# Altium schematic symbol library Mirror_Symbols.SchLib: 25 symbols
Pins are listed as number, name and electrical type; pins without a type are passive.

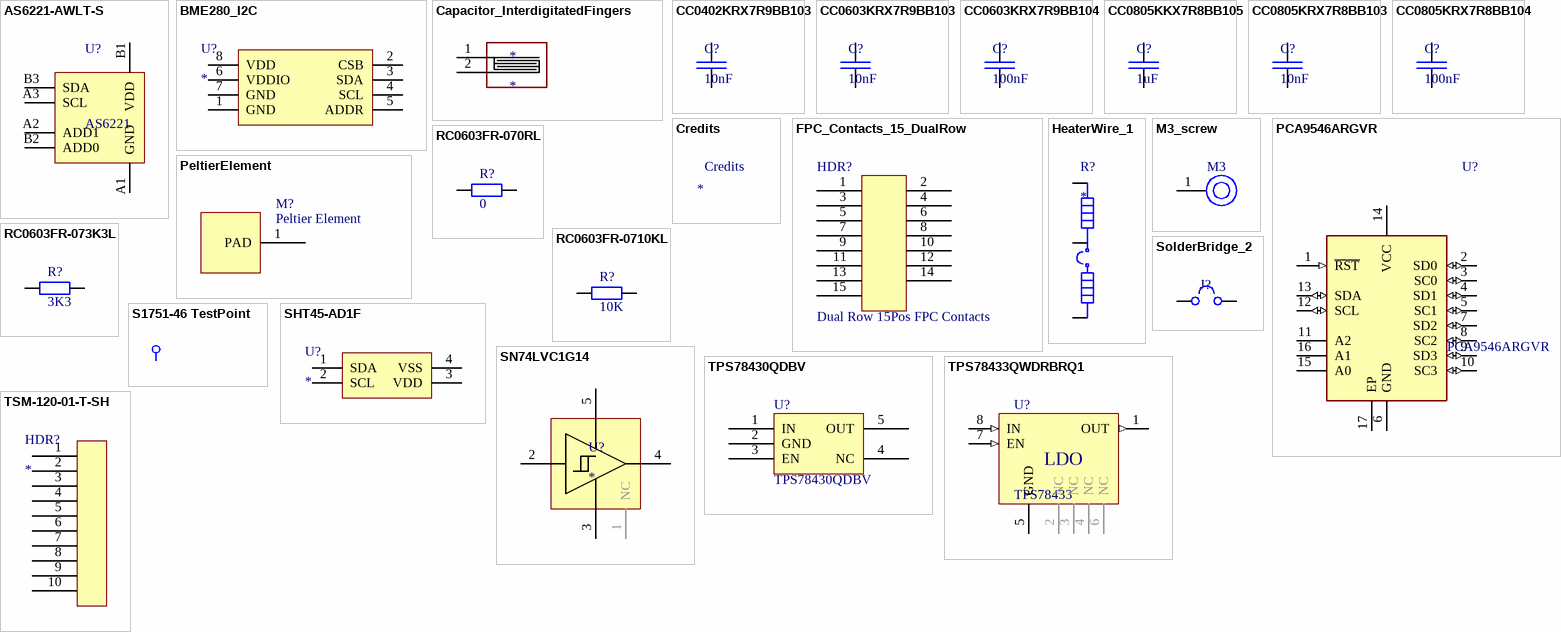
[diagram p0: symbols AS6221-AWLT-S to TSM-120-01-T-SH]

## AS6221-AWLT-S
designator U?, comment AS6221
AS6221 Temperature Sensor Digital -40°C ~ 125°C 16b 6-WLCSP (1.5x1.03); Supplier 1: Mouser; Supplier Part Number 1: 985-AS6221-AWLT-S; Supplier 2: Digikey; Supplier Part Number 2: 4991-AS6221-AWLT-SCT-ND; Supplier 3: Arrow Electronics; Supplier Part Number 3: AS6221-AWLT-S; Supplier 4: Future Electronics; Supplier Part Number 4: 1136541; Supplier 5: Digikey; Supplier Part Number 5: 4991-AS6221-AWLT-SDKR-ND; Supplier 6: Digikey; Supplier Part Number 6: 4991-AS6221-AWLT-STR-ND; Supplier 7: Avnet; Supplier Part Number 7: Q65114A1149
footprint AS6221_BGA
footprint AS6221_BGA_LargePads (BGA, 6-Leads, Body 1.50x1.02mmx0.55mm, Pitch 0.40mm)
pins: A1 GND, A2 ADD1, A3 SCL, B1 VDD, B2 ADD0, B3 SDA

## BME280_I2C
designator U?
BME280 Digital humidity, pressure and temperature sensor; Supplier 1: Future Electronics; Supplier Part Number 1: 2053946; Supplier 2: LCSC; Supplier Part Number 2: C92489
footprint BME280
pins: 1 GND, 2 CSB, 3 SDA, 4 SCL, 5 ADDR, 6 VDDIO, 7 GND, 8 VDD

## Capacitor_InterdigitatedFingers
designator *
footprint CapacitorWire
pins: 1, 2

## CC0402KRX7R9BB103
designator C?, comment 10nF
CAP 10nF SM0402 X7R 50V YAGEO CC2; Manufacturer Part Number: CC0603KRX7R9BB103; Tolerance (%): 10; Voltage Rating (Volts): 50; Category: Capacitor; Manufacturer: Yageo; Package: 0603; Value: 10nF; ComponentLink1URL: http://www.yageo.com; ComponentLink1Description: Manufacturer Website; Supplier 1: Farnell; Supplier Part Number 1: 3369167; Supplier 2: Mouser; Supplier Part Number 2: 603-CC402KRX7R9BB103; Supplier 3: DigiKey; Supplier Part Number 3: 311-1349-1-ND
footprint CAP_SM0402_YAGEOCC2_N (Capacitor, Yageo CC Class2, SM0402, IPC Medium Density)
pins: 1, 2

## CC0603KRX7R9BB103
designator C?, comment 10nF
CAP 10nF SM0603 X7R 50V YAGEO CC2; Manufacturer Part Number: CC0603KRX7R9BB103; Tolerance (%): 10; Voltage Rating (Volts): 50; Category: Capacitor; Manufacturer: Yageo; Package: 0603; Value: 10nF; ComponentLink1URL: http://www.yageo.com; ComponentLink1Description: Manufacturer Website; Supplier 1: Farnell; Supplier Part Number 1: 722236; Supplier 2: DigiKey; Supplier Part Number 2: 311-1085-1-ND; Supplier 3: Future Electronics; Supplier Part Number 3: 4131256; Supplier 4: Arrow Electronics; Supplier Part Number 4: CC0603KRX7R9BB103; Supplier 5: Rs; Supplier Part Number 5: 6169537; Supplier 6: Digikey; Supplier Part Number 6: 311-1085-1-ND; Supplier 7: Digikey; Supplier Part Number 7: 311-1085-6-ND; Supplier 8: Mouser; Supplier Part Number 8: 603-CC603KRX7R9BB103
footprint CAP_SM0603_YAGEOCC2_N (Capacitor, Yageo CC Class2, SM0603, IPC Medium Density)
pins: 1, 2

## CC0603KRX7R9BB104
designator C?, comment 100nF
CAP 100nF SM0603 X7R 50V YAGEO CC2; Manufacturer Part Number: CC0603KRX7R9BB104; Tolerance (%): 10; Voltage Rating (Volts): 50; Category: Capacitor; Manufacturer: Yageo; Package: 0603; Value: 100nF; ComponentLink1URL: http://www.yageo.com; ComponentLink1Description: Manufacturer Website; Supplier 1: Mouser; Supplier Part Number 1: 603-CC603KRX7R9BB104; Supplier 2: Future Electronics; Supplier Part Number 2: 3035896; Supplier 3: Future Electronics; Supplier Part Number 3: 9017302; Supplier 4: Arrow Electronics; Supplier Part Number 4: CC0603KRX7R9BB104; Supplier 5: Rs; Supplier Part Number 5: 6698767; Supplier 6: Avnet; Supplier Part Number 6: 68R4788; Supplier 7: Digikey; Supplier Part Number 7: 311-1344-1-ND; Supplier 8: Digikey; Supplier Part Number 8: 311-1344-6-ND
footprint CAP_SM0603_YAGEOCC2_N (Capacitor, Yageo CC Class2, SM0603, IPC Medium Density)
pins: 1, 2

## CC0805KKX7R8BB105
designator C?, comment 1uF
CAP 1uF SM0805 X7R 25V YAGEO CC2; Manufacturer Part Number: CC0805KKX7R8BB105; Tolerance (%): 10; Voltage Rating (Volts): 25; Category: Capacitor; Manufacturer: Yageo; Package: 0805; Value: 1uF; ComponentLink1URL: http://www.yageo.com; ComponentLink1Description: Manufacturer Website; Supplier 1: Farnell; Supplier Part Number 1: 1458903; Supplier 2: Digikey; Supplier Part Number 2: 311-1456-1-ND; Supplier 3: Mouser; Supplier Part Number 3: 603-CC805KKX7R8BB105; Supplier 4: Future Electronics; Supplier Part Number 4: 7716954; Supplier 5: Arrow Electronics; Supplier Part Number 5: CC0805KKX7R8BB105; Supplier 6: Rs; Supplier Part Number 6: 1988104; Supplier 7: Digikey; Supplier Part Number 7: 311-1456-6-ND
footprint CAP_SM0805_YAGEOCC2_N (Capacitor, Yageo CC Class2, SM0805, IPC Medium Density)
pins: 1, 2

## CC0805KRX7R8BB103
designator C?, comment 10nF
CAP 10nF SM0805 X7R 25V YAGEO CC2; Manufacturer Part Number: CC0805KRX7R8BB103; Tolerance (%): 10; Voltage Rating (Volts): 25; Category: Capacitor; Manufacturer: Yageo; Package: 0805; Value: 10nF; ComponentLink1URL: http://www.yageo.com; ComponentLink1Description: Manufacturer Website; Supplier 1: Farnell; Supplier Part Number 1: 3019767; Supplier 2: Future Electronics; Supplier Part Number 2: 8591166; Supplier 3: Digikey; Supplier Part Number 3: 311-3579-1-ND; Supplier 4: Digikey; Supplier Part Number 4: 311-3579-6-ND; Supplier 5: Mouser; Supplier Part Number 5: 603-CC805KRX7R8BB103
footprint CAP_SM0805_YAGEOCC2_N (Capacitor, Yageo CC Class2, SM0805, IPC Medium Density)
pins: 1, 2

## CC0805KRX7R8BB104
designator C?, comment 100nF
CAP 100nF SM0805 X7R 25V YAGEO CC2; Manufacturer Part Number: CC0805KRX7R8BB104; Tolerance (%): 10; Voltage Rating (Volts): 25; Category: Capacitor; Manufacturer: Yageo; Package: 0805; Value: 100nF; ComponentLink1URL: http://www.yageo.com; ComponentLink1Description: Manufacturer Website; Supplier 1: Farnell; Supplier Part Number 1: 644249; Supplier 2: Digikey; Supplier Part Number 2: 311-1141-1-ND; Supplier 3: Mouser; Supplier Part Number 3: 603-CC805KRX7R8BB104; Supplier 4: Future Electronics; Supplier Part Number 4: 8768756; Supplier 5: Rs; Supplier Part Number 5: 1988138P; Supplier 6: Digikey; Supplier Part Number 6: 311-1141-6-ND; Supplier 7: Newark; Supplier Part Number 7: 08WX8799
footprint CAP_SM0805_YAGEOCC2_N (Capacitor, Yageo CC Class2, SM0805, IPC Medium Density)
pins: 1, 2

## Credits
designator Credit
footprint Credits
footprint Credits_Cu
footprint Credits_TO
footprint CREDITS_CU_SIGNED

## FPC_Contacts_15_DualRow
designator HDR?, comment Dual Row 15Pos FPC Contacts
footprint AYF331535_FPC
pins: 1, 2, 3, 4, 5, 6, 7, 8, 9, 10, 11, 12, 13, 14, 15

## HeaterWire_1
designator R?
footprint HeaterWire_1
pins: 1, 2, 3

## M3_screw
designator M?, comment M3
footprint M3_drillhole
pins: 1

## PCA9546ARGVR
designator U?
4-Channel I2C And SMBus Switch With Reset Functions; Manufacturer_Name: Texas Instruments; Geometry.Height: 1mm; Mouser Part Number: 595-PCA9546ARGVR; Mouser Price/Stock: https://www.mouser.co.uk/ProductDetail/Texas-Instruments/PCA9546ARGVR?qs=iSMark9AYDVOIxSBd0ujBA%3D%3D; Manufacturer_Part_Number: PCA9546ARGVR; Datasheet Link: http://www.ti.com/lit/gpn/pca9546a; Supplier 1: Mouser; Supplier Part Number 1: 595-PCA9546ARGVR; Supplier 2: Digi-Key; Supplier Part Number 2: 296-21771-1-ND; Supplier 3: Digi-Key; Supplier Part Number 3: 296-21771-6-ND
footprint QFN65P400X400X100-17N-D
pins: 1 ~{RST} (in), 2 SD0 (io), 3 SC0 (io), 4 SD1 (io), 5 SC1 (io), 6 GND, 7 SD2 (io), 8 SC2 (io), 9 SD3 (io), 10 SC3 (io), 11 A2, 12 SCL (io), 13 SDA (io), 14 VCC, 15 A0, 16 A1, 17 EP

## PeltierElement
designator M?, comment Peltier Element
Peltier element 40mm x 40mm
footprint PeltierElement
footprint PeltierElement2
pins: 1 PAD

## RC0603FR-070RL
designator R?, comment 0
RES 0R SM0603 YAGEO RC_L; Manufacturer Part Number: RC0603FR-0710KL; Power (Watts): 0.1; Resistance (Ohms): 10000; Tolerance (%): 1; Category: Resistor; Manufacturer: Yageo; Package: 0603; Value: 0; ComponentLink1URL: http://www.yageo.com; ComponentLink1Description: Manufacturer Website; Supplier 1: Digikey; Supplier Part Number 1: 311-0.0HRCT-ND; Supplier 2: Digikey; Supplier Part Number 2: 311-0.0HRDKR-ND; Supplier 3: Farnell; Supplier Part Number 3: 2309106; Supplier 4: Mouser; Supplier Part Number 4: 603-RC0603FR-070RL; Supplier 5: Newark; Supplier Part Number 5: 50Y7761
footprint RES_SM0603_YAGEORC_N (Resistor, Yageo RC_L, SM0603, IPC Medium Density)
pins: 1, 2

## RC0603FR-073K3L
designator R?, comment 3K3
RES 3K3 SM0603 YAGEO RC_L; Manufacturer Part Number: RC0603FR-0710KL; Power (Watts): 0.1; Resistance (Ohms): 10000; Tolerance (%): 1; Category: Resistor; Manufacturer: Yageo; Package: 0603; Value: 3K3; ComponentLink1URL: http://www.yageo.com; ComponentLink1Description: Manufacturer Website; Supplier 1: Rs; Supplier Part Number 1: 1995564; Supplier 2: Farnell; Supplier Part Number 2: 9238549; Supplier 3: Digikey; Supplier Part Number 3: 311-3.30KHRCT-ND; Supplier 4: Digikey; Supplier Part Number 4: 311-3.30KHRDKR-ND; Supplier 5: Mouser; Supplier Part Number 5: 603-RC0603FR-073K3L; Supplier 6: Newark; Supplier Part Number 6: 98K7393
footprint RES_SM0603_YAGEORC_N (Resistor, Yageo RC_L, SM0603, IPC Medium Density)
pins: 1, 2

## RC0603FR-0710KL
designator R?, comment 10K
RES 10K SM0603 YAGEO RC_L; Manufacturer Part Number: RC0603FR-0710KL; Power (Watts): 0.1; Resistance (Ohms): 10000; Tolerance (%): 1; Category: Resistor; Manufacturer: Yageo; Package: 0603; Value: 10K; ComponentLink1URL: http://www.yageo.com; ComponentLink1Description: Manufacturer Website; Supplier 1: Farnell; Supplier Part Number 1: 9238603; Supplier 2: Future Electronics; Supplier Part Number 2: 3349388; Supplier 3: Rs; Supplier Part Number 3: 1995443; Supplier 4: Digikey; Supplier Part Number 4: 311-10.0KHRCT-ND; Supplier 5: Digikey; Supplier Part Number 5: 311-10.0KHRDKR-ND; Supplier 6: Mouser; Supplier Part Number 6: 603-RC0603FR-0710KL; Supplier 7: Newark; Supplier Part Number 7: 98K7338
footprint RES_SM0603_YAGEORC_N (Resistor, Yageo RC_L, SM0603, IPC Medium Density)
pins: 1, 2

## S1751-46 TestPoint
designator J?  (value not drawn)
S1751-46 SMT TestPoint 3.25x1.65; Supplier 1: Rs; Supplier Part Number 1: 1613604; Supplier 2: Rs; Supplier Part Number 2: 1613705; Supplier 3: Digikey; Supplier Part Number 3: 952-3024-ND; Supplier 4: Mouser; Supplier Part Number 4: 855-S1751-46
footprint S1751-46 TestPoint
pins: 1

## SHT45-AD1F
designator U?
SHT45 4th Gen. High-Accuracy, Ultra-Low-Power, 16-bit, Relative Humidity and Temperature Sensor; Supplier 1: Digikey; Supplier Part Number 1: 1649-SHT45-AD1F-R2CT-ND; Supplier 2: Digikey; Supplier Part Number 2: 1649-SHT45-AD1F-R2DKR-ND; Supplier 3: Farnell; Supplier Part Number 3: 4134537; Supplier 4: Mouser; Supplier Part Number 4: 403-SHT45-AD1F-R2
footprint SHT45 DFN (DFN, 4-Leads, Body 1.50x1.50mm, Pitch 0.80mm, IPC Medium Density)
pins: 1 SDA, 2 SCL, 3 VDD, 4 VSS

## SN74LVC1G14
designator U?
SN74LVC1G14 Single Schmitt-Trigger Inverter 1.65-V to 5.5-V VCC +-24mA Output Current (DBV, DCK, DRL, DRY, DPW, and YZP Package); Supplier 1: Mouser; Supplier Part Number 1: 595-SN74LVC1G14DCKR; Supplier 2: Digikey; Supplier Part Number 2: 296-11608-1-ND; Supplier 3: Digikey; Supplier Part Number 3: 296-11608-6-ND; Supplier 4: LCSC; Supplier Part Number 4: C35740
footprint SOT65P210X110-5N_SC70 (SC70/SOT23, 5-Leads, Body 2.00x2.10mm, Pitch 0.65mm, IPC Medium Density)
pins: 1 NC, 2 A, 3 57, 4 Y, 5 VCC

## SolderBridge_2
designator J?  (value not drawn)
Solder Bridge 2 Pin Unconnected
footprint SolderBridge2_SMD_Rect_1.27x1.27
pins: 1, 2

## TPS78430QDBV
designator U?
TPS78430QDBV LDO 3.0V 300mA
footprint TPS784XXXQDBVRQ1_SOT23 (SOT23, 5-Leads, Body 2,90x2,80mm, Pitch 0,95mm, IPC Medium Density)
pins: 1 IN, 2 GND, 3 EN, 4 NC, 5 OUT

## TPS78433QWDRBRQ1
designator U?, comment TPS78433
TPS78433-Q1 3.3V, 300-mA, High-PSRR Low-Dropout Voltage Regulator With High Accuracy and Enable,  8-SON (3x3); Supplier 1: Mouser; Supplier Part Number 1: 595-TPS78433QWDRBRQ1; Supplier 2: Digikey; Supplier Part Number 2: 296-TPS78433QWDRBRQ1CT-ND; Supplier 3: Texas Instruments; Supplier Part Number 3: TPS78433QWDRBRQ1; Supplier 4: Digikey; Supplier Part Number 4: 296-TPS78433QWDRBRQ1DKR-ND; Supplier 5: Digikey; Supplier Part Number 5: 296-TPS78433QWDRBRQ1TR-ND; Supplier 6: LCSC; Supplier Part Number 6: C3747465
footprint TPS784xxxQDRBRQ1_SON (SON127P600-8N)
pins: 1 OUT (out), 2 NC, 3 NC, 4 NC, 5 GND, 6 NC, 7 EN (in), 8 IN (in)
text: LDO

## TSM-120-01-T-SH
designator HDR?
SURFACE MOUNT (2.54 mm) .100" PITCH .025" SQ POST HEADER; Supplier 1: Mouser; Supplier Part Number 1: 200-TSM12001TSH; Supplier 2: Digikey; Supplier Part Number 2: TSM-120-01-T-SH-ND
footprint TSM-120-01-T-SH
pins: 1, 2, 3, 4, 5, 6, 7, 8, 9, 10